# Altium integrated library IC-Power-DC-DC.IntLib: 2 symbols
Pins are listed as number, name and electrical type; pins without a type are passive.

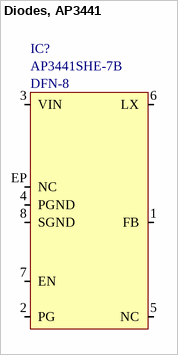
[diagram p0: symbol Diodes, AP3441]

## Diodes, AP3441
designator IC?  Manufacturer Part Number: AP3441SHE-7B  Package: DFN-8  (hidden comment: *)
IC, Power, Buck, DFN-8, 2x2; Manufacturer: Richtek; ComponentLink1Description: Datasheet; ComponentLink1URL: E:\Altium\Datasheets\IC - Power - DC-DC\Diodes, AP3441.pdf; ComponentLink2Description: Supplier Link; ComponentLink2URL: https://www.digikey.com/en/products/detail/diodes-incorporated/AP3441SHE-7B/9765636; Supplier: Digikey; Supplier Part Number: AP3441SHE-7BDICT-ND; Operating Temperature, Min: -40℃; Operating Temperature, Max: +85℃; Quantity, Min: 1; Quantity, Max: 30000; Price, Min: 0.54; Supplier Currency: $; Price, Max: 0.13275; Supplier Link: https://www.digikey.com/en/products/detail/diodes-incorporated/AP3441SHE-7B/9765636; Component Type: Power; Component Category: IC
footprint DFN-8, 2mm x 2mm, 0.5mm
pins: 1 FB, 2 PG, 3 VIN, 4 PGND, 5 NC, 6 LX, 7 EN, 8 SGND, EP NC


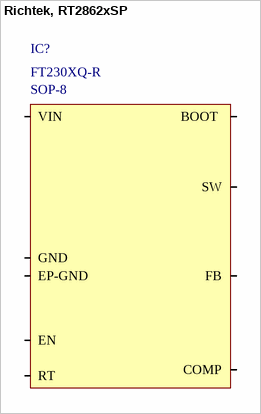
[diagram p1: symbol Richtek, RT2862xSP]

## Richtek, RT2862xSP
designator IC?  Manufacturer Part number: FT230XQ-R  Package: SOP-8  (hidden comment: *)
IC,Interface,FTDI,QFN16; component category: capacitor*; ComponentLink1Description: datasheet; ComponentLink1URL: *; ComponentLink2Description: supplier link; ComponentLink2URL: *; component type: ceramic; supplier link: *; supplier currency: *; price,max: *; price,min: *; Quantity,max: *; Quantity,min: *; Operating Temparature,max: +85; Operating Temparature,min: -40; Supplier Part number: *; Supplier: Digikey; Manufacturer: FTDI
footprint Richtek, RT2862xSP,SOP-8
pins: 1-SW SW, 2-BOOT BOOT , 3-EN EN, 4-GND GND, 5-FB FB, 6-COMP COMP, 7-RT RT, 8-VIN VIN, EP-GND